# Altium schematic symbol library IND-SM-0402-HF-8.2nH.Schlib: 1 symbol
Pins are listed as number, name and electrical type; pins without a type are passive.

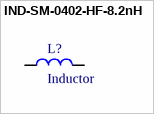
[diagram p0: symbol IND-SM-0402-HF-8.2nH]

## IND-SM-0402-HF-8.2nH
designator L?, comment Inductor
IND SM 0402 CHIP HF 8.2nH 5%
pins: 1, 2